# Altium integrated library Microchip Microcontroller 8-Bit PIC16 2.IntLib: 1656 symbols (part 9 of 56)
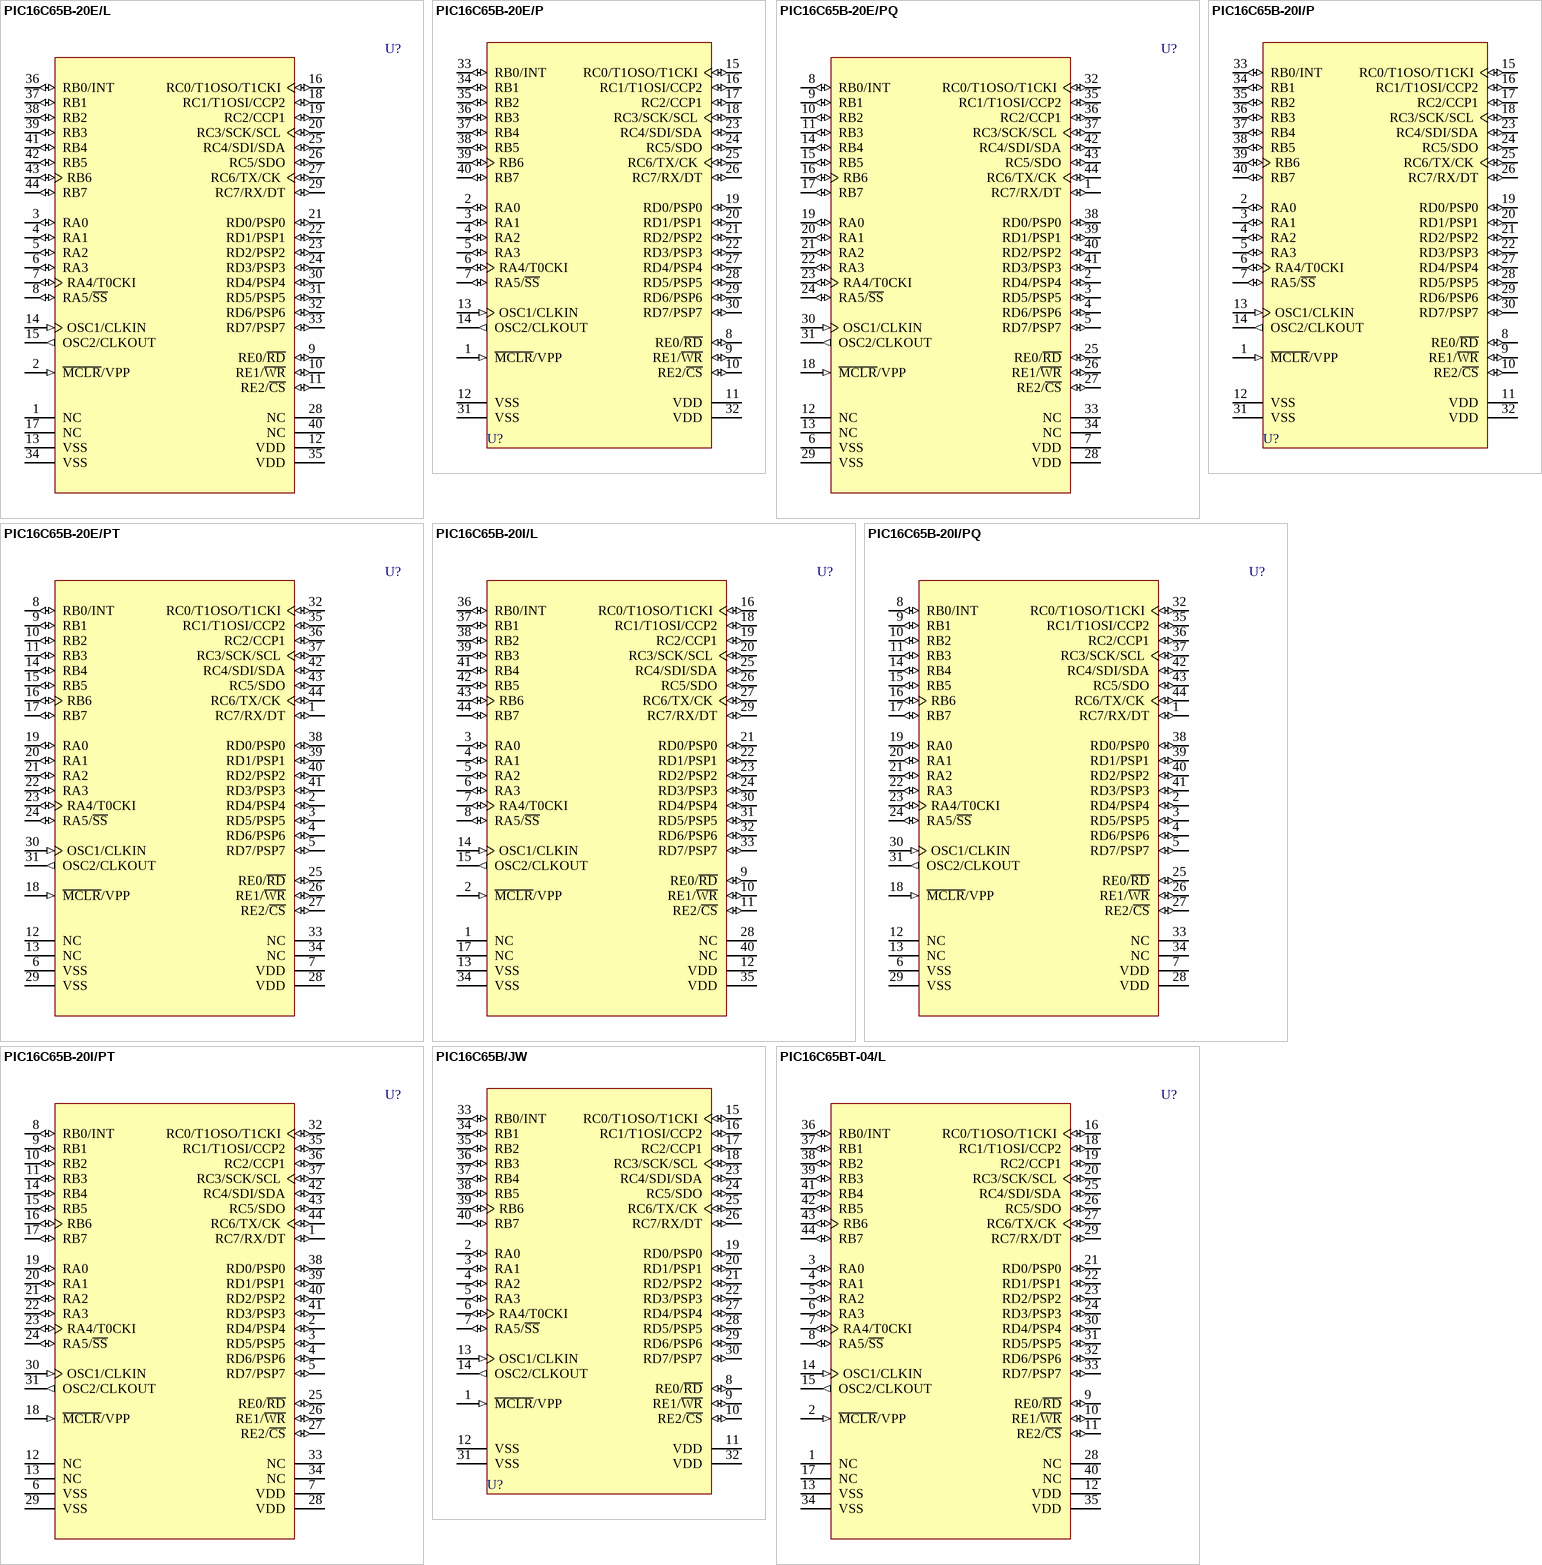
[diagram p116: symbols PIC16C65B-20E/L to PIC16C65BT-04/L]

## PIC16C65B-20I/L
designator U?
8-Bit CMOS Microcontroller, 192 Bytes RAM, 33 I/O Pins, 20 MHz, 44-Pin PLCC, Standard VDD Range, Industrial Temperature; Note: Verify oscillator characteristics if changing from this device to another.; Note: 4.0 to 5.5V Supply Range in XT, RC and LP osc modes.; Note: 4.5 to 5.5V Supply Range in HS osc mode.; Note: 25mA source/sink per I/O.; Published: 11-Oct-2004; LatestRevisionDate: 13-Apr-2006; LatestRevisionNote: IPC-7351 Footprint Added.; DatasheetVersion: DS30605C_2000; PackageVersion: 2003; PackageReference: PLCC-44; Publisher: Altium Limited; PackageDescription: 44-Pin Leaded Chip Carrier 1.27 mm Pitch; Code_JEDEC: MO-047; Code_IPC: PLCC-44; ComponentLink1Description: Manufacturer Link; ComponentLink1URL: http://www.microchip.com; ComponentLink2Description: Datasheet; ComponentLink2URL: http://ww1.microchip.com/downloads/en/DeviceDoc/30605c.pdf; ComponentLink3Description: Packaging Specification; ComponentLink3URL: http://ww1.microchip.com/downloads/en/PackagingSpec/00049AD.pdf
footprint PLCC-44_N (Leaded Chip Carrier, 44-Leads, Body 16.6x16.6mm, Pitch 1.27mm, IPC Medium Density)
footprint PLCC-44_L (Leaded Chip Carrier, 44-Leads, Body 16.6x16.6mm, Pitch 1.27mm, IPC High Density)
footprint PLCC-44_M (Leaded Chip Carrier, 44-Leads, Body 16.6x16.6mm, Pitch 1.27mm, IPC Low Density)
3D model PIC16C65B-PLCC-44 (44-Pin Leaded Chip Carrier 1.27 mm Pitch)
pins: 1 NC, 2 ~{MCLR}/VPP (in), 3 RA0 (io), 4 RA1 (io), 5 RA2 (io), 6 RA3 (io), 7 RA4/T0CKI (io), 8 RA5/~{SS} (io), 9 RE0/~{RD} (io), 10 RE1/~{WR} (io), 11 RE2/~{CS} (io), 12 VDD (power), 13 VSS (power), 14 OSC1/CLKIN (in), 15 OSC2/CLKOUT (out), 16 RC0/T1OSO/T1CKI (io), 17 NC, 18 RC1/T1OSI/CCP2 (io), 19 RC2/CCP1 (io), 20 RC3/SCK/SCL (io), 21 RD0/PSP0 (io), 22 RD1/PSP1 (io), 23 RD2/PSP2 (io), 24 RD3/PSP3 (io), 25 RC4/SDI/SDA (io), 26 RC5/SDO (io), 27 RC6/TX/CK (io), 28 NC, 29 RC7/RX/DT (io), 30 RD4/PSP4 (io), 31 RD5/PSP5 (io), 32 RD6/PSP6 (io), 33 RD7/PSP7 (io), 34 VSS (power), 35 VDD (power), 36 RB0/INT (io), 37 RB1 (io), 38 RB2 (io), 39 RB3 (io), 40 NC, 41 RB4 (io), 42 RB5 (io), 43 RB6 (io), 44 RB7 (io)

## PIC16C65B-20I/P
designator U?
8-Bit CMOS Microcontroller, 192 Bytes RAM, 33 I/O Pins, 20 MHz, 40-Pin PDIP, Standard VDD Range, Industrial Temperature; Note: Verify oscillator characteristics if changing from this device to another.; Note: 4.0 to 5.5V Supply Range in XT, RC and LP osc modes.; Note: 4.5 to 5.5V Supply Range in HS osc mode.; Note: 25mA source/sink per I/O.; Published: 11-Oct-2004; LatestRevisionDate: 04-Mar-2005; LatestRevisionNote: Stylized 3D Model Added.; DatasheetVersion: DS30605C_2000; PackageVersion: 2003; PackageReference: PDIP600-40; Publisher: Altium Limited; PackageDescription: DIP, Plastic; 40 Leads; Row Spacing 15.24 mm; Pitch 2.54 mm; Code_JEDEC: MO-011; ComponentLink1Description: Manufacturer Link; ComponentLink1URL: http://www.microchip.com; ComponentLink2Description: Datasheet; ComponentLink2URL: http://ww1.microchip.com/downloads/en/DeviceDoc/30605c.pdf; ComponentLink3Description: Packaging Specification; ComponentLink3URL: http://ww1.microchip.com/downloads/en/PackagingSpec/00049AD.pdf
footprint PDIP600-40 (DIP, Plastic; 40 Leads; Row Spacing 15.24 mm; Pitch 2.54 mm)
3D model PDIP600-40 (DIP, Plastic; 40 Leads; Row Spacing 15.24 mm; Pitch 2.54 mm)
pins: 1 ~{MCLR}/VPP (in), 2 RA0 (io), 3 RA1 (io), 4 RA2 (io), 5 RA3 (io), 6 RA4/T0CKI (io), 7 RA5/~{SS} (io), 8 RE0/~{RD} (io), 9 RE1/~{WR} (io), 10 RE2/~{CS} (io), 11 VDD (power), 12 VSS (power), 13 OSC1/CLKIN (in), 14 OSC2/CLKOUT (out), 15 RC0/T1OSO/T1CKI (io), 16 RC1/T1OSI/CCP2 (io), 17 RC2/CCP1 (io), 18 RC3/SCK/SCL (io), 19 RD0/PSP0 (io), 20 RD1/PSP1 (io), 21 RD2/PSP2 (io), 22 RD3/PSP3 (io), 23 RC4/SDI/SDA (io), 24 RC5/SDO (io), 25 RC6/TX/CK (io), 26 RC7/RX/DT (io), 27 RD4/PSP4 (io), 28 RD5/PSP5 (io), 29 RD6/PSP6 (io), 30 RD7/PSP7 (io), 31 VSS (power), 32 VDD (power), 33 RB0/INT (io), 34 RB1 (io), 35 RB2 (io), 36 RB3 (io), 37 RB4 (io), 38 RB5 (io), 39 RB6 (io), 40 RB7 (io)

## PIC16C65B-20I/PQ
designator U?
8-Bit CMOS Microcontroller, 192 Bytes RAM, 33 I/O Pins, 20 MHz, 44-Pin MQFP, Standard VDD Range, Industrial Temperature; Note: Verify oscillator characteristics if changing from this device to another.; Note: 4.0 to 5.5V Supply Range in XT, RC and LP osc modes.; Note: 4.5 to 5.5V Supply Range in HS osc mode.; Note: 25mA source/sink per I/O.; Published: 11-Oct-2004; LatestRevisionDate: 13-Apr-2006; LatestRevisionNote: IPC-7351 Footprint Added.; DatasheetVersion: DS30605C_2000; PackageVersion: 2003; PackageReference: MQFP-44; Publisher: Altium Limited; PackageDescription: 44-Pin Plastic Metric Quad Flat Pack 0.8 mm Pitch, 1.6/0.15 mm Lead Form; Code_JEDEC: MS-022; Code_IPC: QFP80P1320X1320-44; ComponentLink1Description: Manufacturer Link; ComponentLink1URL: http://www.microchip.com; ComponentLink2Description: Datasheet; ComponentLink2URL: http://ww1.microchip.com/downloads/en/DeviceDoc/30605c.pdf; ComponentLink3Description: Packaging Specification; ComponentLink3URL: http://ww1.microchip.com/downloads/en/PackagingSpec/00049AD.pdf
footprint MQFP-44_N (QFP, 44-Leads, Body 10x10mm, Pitch 0.8mm, IPC Medium Density)
footprint MQFP-44_L (QFP, 44-Leads, Body 10x10mm, Pitch 0.8mm, IPC High Density)
footprint MQFP-44_M (QFP, 44-Leads, Body 10x10mm, Pitch 0.8mm, IPC Low Density)
3D model PIC16C65B-MQFP-44 (44-Pin Plastic Metric Quad Flat Pack 0.8 mm Pitch, 1.6/0.15 mm Lead Form)
pins: 1 RC7/RX/DT (io), 2 RD4/PSP4 (io), 3 RD5/PSP5 (io), 4 RD6/PSP6 (io), 5 RD7/PSP7 (io), 6 VSS (power), 7 VDD (power), 8 RB0/INT (io), 9 RB1 (io), 10 RB2 (io), 11 RB3 (io), 12 NC, 13 NC, 14 RB4 (io), 15 RB5 (io), 16 RB6 (io), 17 RB7 (io), 18 ~{MCLR}/VPP (in), 19 RA0 (io), 20 RA1 (io), 21 RA2 (io), 22 RA3 (io), 23 RA4/T0CKI (io), 24 RA5/~{SS} (io), 25 RE0/~{RD} (io), 26 RE1/~{WR} (io), 27 RE2/~{CS} (io), 28 VDD (power), 29 VSS (power), 30 OSC1/CLKIN (in), 31 OSC2/CLKOUT (out), 32 RC0/T1OSO/T1CKI (io), 33 NC, 34 NC, 35 RC1/T1OSI/CCP2 (io), 36 RC2/CCP1 (io), 37 RC3/SCK/SCL (io), 38 RD0/PSP0 (io), 39 RD1/PSP1 (io), 40 RD2/PSP2 (io), 41 RD3/PSP3 (io), 42 RC4/SDI/SDA (io), 43 RC5/SDO (io), 44 RC6/TX/CK (io)

## PIC16C65B-20I/PT
designator U?
8-Bit CMOS Microcontroller, 192 Bytes RAM, 33 I/O Pins, 20 MHz, 44-Pin TQFP, Standard VDD Range, Industrial Temperature; Note: Verify oscillator characteristics if changing from this device to another.; Note: 4.0 to 5.5V Supply Range in XT, RC and LP osc modes.; Note: 4.5 to 5.5V Supply Range in HS osc mode.; Note: 25mA source/sink per I/O.; Published: 11-Oct-2004; LatestRevisionDate: 13-Apr-2006; LatestRevisionNote: IPC-7351 Footprint Added.; DatasheetVersion: DS30605C_2000; PackageVersion: 2003; PackageReference: TQFP-44; Publisher: Altium Limited; PackageDescription: 44-Pin Thin Quad Flat Pack 0.8 mm Pitch, 1.0/0.1 mm Lead Form; Code_JEDEC: MS-026; ComponentLink1Description: Manufacturer Link; ComponentLink1URL: http://www.microchip.com; ComponentLink2Description: Datasheet; ComponentLink2URL: http://ww1.microchip.com/downloads/en/DeviceDoc/30605c.pdf; ComponentLink3Description: Packaging Specification; ComponentLink3URL: http://ww1.microchip.com/downloads/en/PackagingSpec/00049AD.pdf
footprint TQFP-44_N (Thin QFP, 44-Leads, Body 10x10mm, Pitch 0.8mm, IPC Medium Density)
footprint TQFP-44_L (Thin QFP, 44-Leads, Body 10x10mm, Pitch 0.8mm, IPC High Density)
footprint TQFP-44_M (Thin QFP, 44-Leads, Body 10x10mm, Pitch 0.8mm, IPC Low Density)
3D model PIC16C65B-TQFP-44 (44-Pin Thin Quad Flat Pack 0.8 mm Pitch, 1.0/0.1 mm Lead Form)
pins: 1 RC7/RX/DT (io), 2 RD4/PSP4 (io), 3 RD5/PSP5 (io), 4 RD6/PSP6 (io), 5 RD7/PSP7 (io), 6 VSS (power), 7 VDD (power), 8 RB0/INT (io), 9 RB1 (io), 10 RB2 (io), 11 RB3 (io), 12 NC, 13 NC, 14 RB4 (io), 15 RB5 (io), 16 RB6 (io), 17 RB7 (io), 18 ~{MCLR}/VPP (in), 19 RA0 (io), 20 RA1 (io), 21 RA2 (io), 22 RA3 (io), 23 RA4/T0CKI (io), 24 RA5/~{SS} (io), 25 RE0/~{RD} (io), 26 RE1/~{WR} (io), 27 RE2/~{CS} (io), 28 VDD (power), 29 VSS (power), 30 OSC1/CLKIN (in), 31 OSC2/CLKOUT (out), 32 RC0/T1OSO/T1CKI (io), 33 NC, 34 NC, 35 RC1/T1OSI/CCP2 (io), 36 RC2/CCP1 (io), 37 RC3/SCK/SCL (io), 38 RD0/PSP0 (io), 39 RD1/PSP1 (io), 40 RD2/PSP2 (io), 41 RD3/PSP3 (io), 42 RC4/SDI/SDA (io), 43 RC5/SDO (io), 44 RC6/TX/CK (io)

## PIC16C65B/JW
designator U?
8-Bit CMOS Microcontroller, 192 Bytes RAM, 33 I/O Pins, 40-Pin CERDIP, UV Erasable, Standard VDD Range, Commercial Temperature; Note: JW Devices can be programmed to any device configuration.; Note: JW Devices meet the electrical requirement of each oscillator type (including LC devices).; Note: 25mA source/sink per I/O.; Published: 11-Oct-2004; LatestRevisionDate: 04-Mar-2005; LatestRevisionNote: Stylized 3D Model Added.; DatasheetVersion: DS30605C_2000; PackageVersion: 2003; PackageReference: CERDIP600W-40; Publisher: Altium Limited; PackageDescription: CerDIP, Window; 40 Leads; Row Spacing 15.24 mm; Pitch 2.54 mm; Code_JEDEC: MO-103; ComponentLink1Description: Manufacturer Link; ComponentLink1URL: http://www.microchip.com; ComponentLink2Description: Datasheet; ComponentLink2URL: http://ww1.microchip.com/downloads/en/DeviceDoc/30605c.pdf; ComponentLink3Description: Packaging Specification; ComponentLink3URL: http://ww1.microchip.com/downloads/en/PackagingSpec/00049AD.pdf
footprint CERDIP600W-40 (CerDIP, Window; 40 Leads; Row Spacing 15.24 mm; Pitch 2.54 mm)
3D model CERDIP600W-40 (CerDIP, Window; 40 Leads; Row Spacing 15.24 mm; Pitch 2.54 mm)
pins: 1 ~{MCLR}/VPP (in), 2 RA0 (io), 3 RA1 (io), 4 RA2 (io), 5 RA3 (io), 6 RA4/T0CKI (io), 7 RA5/~{SS} (io), 8 RE0/~{RD} (io), 9 RE1/~{WR} (io), 10 RE2/~{CS} (io), 11 VDD (power), 12 VSS (power), 13 OSC1/CLKIN (in), 14 OSC2/CLKOUT (out), 15 RC0/T1OSO/T1CKI (io), 16 RC1/T1OSI/CCP2 (io), 17 RC2/CCP1 (io), 18 RC3/SCK/SCL (io), 19 RD0/PSP0 (io), 20 RD1/PSP1 (io), 21 RD2/PSP2 (io), 22 RD3/PSP3 (io), 23 RC4/SDI/SDA (io), 24 RC5/SDO (io), 25 RC6/TX/CK (io), 26 RC7/RX/DT (io), 27 RD4/PSP4 (io), 28 RD5/PSP5 (io), 29 RD6/PSP6 (io), 30 RD7/PSP7 (io), 31 VSS (power), 32 VDD (power), 33 RB0/INT (io), 34 RB1 (io), 35 RB2 (io), 36 RB3 (io), 37 RB4 (io), 38 RB5 (io), 39 RB6 (io), 40 RB7 (io)

## PIC16C65BT-04/L
designator U?
8-Bit CMOS Microcontroller, 192 Bytes RAM, 33 I/O Pins, 4 MHz, 44-Pin PLCC, Standard VDD Range, Commercial Temperature, Tape and Reel; Note: Verify oscillator characteristics if changing from this device to another.; Note: 4.0 to 5.5V Supply Range in XT, RC and LP osc modes.; Note: 4.5 to 5.5V Supply Range in HS osc mode.; Note: 25mA source/sink per I/O.; Published: 11-Oct-2004; LatestRevisionDate: 13-Apr-2006; LatestRevisionNote: IPC-7351 Footprint Added.; DatasheetVersion: DS30605C_2000; PackageVersion: 2003; PackageReference: PLCC-44; Publisher: Altium Limited; PackageDescription: 44-Pin Leaded Chip Carrier 1.27 mm Pitch; Code_JEDEC: MO-047; Code_IPC: PLCC-44; ComponentLink1Description: Manufacturer Link; ComponentLink1URL: http://www.microchip.com; ComponentLink2Description: Datasheet; ComponentLink2URL: http://ww1.microchip.com/downloads/en/DeviceDoc/30605c.pdf; ComponentLink3Description: Packaging Specification; ComponentLink3URL: http://ww1.microchip.com/downloads/en/PackagingSpec/00049AD.pdf
footprint PLCC-44_N (Leaded Chip Carrier, 44-Leads, Body 16.6x16.6mm, Pitch 1.27mm, IPC Medium Density)
footprint PLCC-44_L (Leaded Chip Carrier, 44-Leads, Body 16.6x16.6mm, Pitch 1.27mm, IPC High Density)
footprint PLCC-44_M (Leaded Chip Carrier, 44-Leads, Body 16.6x16.6mm, Pitch 1.27mm, IPC Low Density)
3D model PIC16C65B-PLCC-44 (44-Pin Leaded Chip Carrier 1.27 mm Pitch)
pins: 1 NC, 2 ~{MCLR}/VPP (in), 3 RA0 (io), 4 RA1 (io), 5 RA2 (io), 6 RA3 (io), 7 RA4/T0CKI (io), 8 RA5/~{SS} (io), 9 RE0/~{RD} (io), 10 RE1/~{WR} (io), 11 RE2/~{CS} (io), 12 VDD (power), 13 VSS (power), 14 OSC1/CLKIN (in), 15 OSC2/CLKOUT (out), 16 RC0/T1OSO/T1CKI (io), 17 NC, 18 RC1/T1OSI/CCP2 (io), 19 RC2/CCP1 (io), 20 RC3/SCK/SCL (io), 21 RD0/PSP0 (io), 22 RD1/PSP1 (io), 23 RD2/PSP2 (io), 24 RD3/PSP3 (io), 25 RC4/SDI/SDA (io), 26 RC5/SDO (io), 27 RC6/TX/CK (io), 28 NC, 29 RC7/RX/DT (io), 30 RD4/PSP4 (io), 31 RD5/PSP5 (io), 32 RD6/PSP6 (io), 33 RD7/PSP7 (io), 34 VSS (power), 35 VDD (power), 36 RB0/INT (io), 37 RB1 (io), 38 RB2 (io), 39 RB3 (io), 40 NC, 41 RB4 (io), 42 RB5 (io), 43 RB6 (io), 44 RB7 (io)

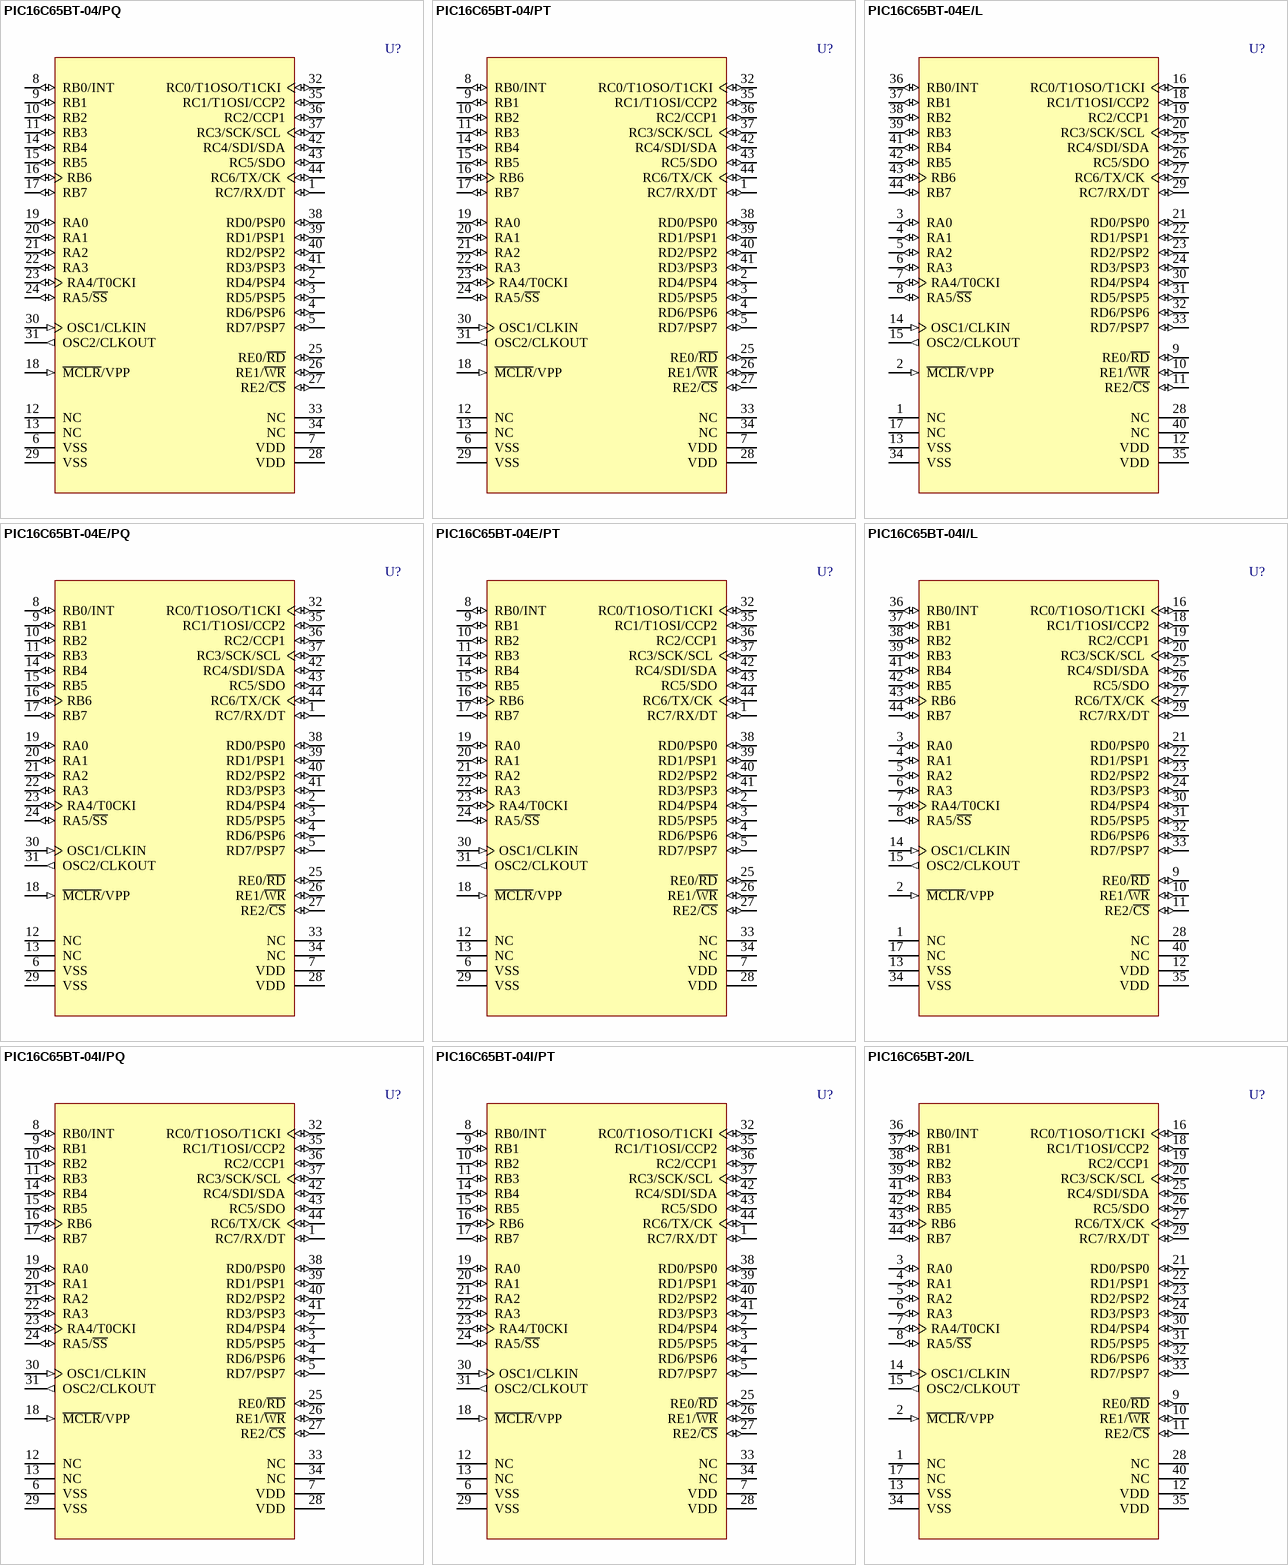
[diagram p18: symbols PIC16C65BT-04/PQ to PIC16C65BT-20/L]

## PIC16C65BT-04/PQ
designator U?
8-Bit CMOS Microcontroller, 192 Bytes RAM, 33 I/O Pins, 4 MHz, 44-Pin MQFP, Standard VDD Range, Commercial Temperature, Tape and Reel; Note: Verify oscillator characteristics if changing from this device to another.; Note: 4.0 to 5.5V Supply Range in XT, RC and LP osc modes.; Note: 4.5 to 5.5V Supply Range in HS osc mode.; Note: 25mA source/sink per I/O.; Published: 11-Oct-2004; LatestRevisionDate: 13-Apr-2006; LatestRevisionNote: IPC-7351 Footprint Added.; DatasheetVersion: DS30605C_2000; PackageVersion: 2003; PackageReference: MQFP-44; Publisher: Altium Limited; PackageDescription: 44-Pin Plastic Metric Quad Flat Pack 0.8 mm Pitch, 1.6/0.15 mm Lead Form; Code_JEDEC: MS-022; Code_IPC: QFP80P1320X1320-44; ComponentLink1Description: Manufacturer Link; ComponentLink1URL: http://www.microchip.com; ComponentLink2Description: Datasheet; ComponentLink2URL: http://ww1.microchip.com/downloads/en/DeviceDoc/30605c.pdf; ComponentLink3Description: Packaging Specification; ComponentLink3URL: http://ww1.microchip.com/downloads/en/PackagingSpec/00049AD.pdf
footprint MQFP-44_N (QFP, 44-Leads, Body 10x10mm, Pitch 0.8mm, IPC Medium Density)
footprint MQFP-44_L (QFP, 44-Leads, Body 10x10mm, Pitch 0.8mm, IPC High Density)
footprint MQFP-44_M (QFP, 44-Leads, Body 10x10mm, Pitch 0.8mm, IPC Low Density)
3D model PIC16C65B-MQFP-44 (44-Pin Plastic Metric Quad Flat Pack 0.8 mm Pitch, 1.6/0.15 mm Lead Form)
pins: 1 RC7/RX/DT (io), 2 RD4/PSP4 (io), 3 RD5/PSP5 (io), 4 RD6/PSP6 (io), 5 RD7/PSP7 (io), 6 VSS (power), 7 VDD (power), 8 RB0/INT (io), 9 RB1 (io), 10 RB2 (io), 11 RB3 (io), 12 NC, 13 NC, 14 RB4 (io), 15 RB5 (io), 16 RB6 (io), 17 RB7 (io), 18 ~{MCLR}/VPP (in), 19 RA0 (io), 20 RA1 (io), 21 RA2 (io), 22 RA3 (io), 23 RA4/T0CKI (io), 24 RA5/~{SS} (io), 25 RE0/~{RD} (io), 26 RE1/~{WR} (io), 27 RE2/~{CS} (io), 28 VDD (power), 29 VSS (power), 30 OSC1/CLKIN (in), 31 OSC2/CLKOUT (out), 32 RC0/T1OSO/T1CKI (io), 33 NC, 34 NC, 35 RC1/T1OSI/CCP2 (io), 36 RC2/CCP1 (io), 37 RC3/SCK/SCL (io), 38 RD0/PSP0 (io), 39 RD1/PSP1 (io), 40 RD2/PSP2 (io), 41 RD3/PSP3 (io), 42 RC4/SDI/SDA (io), 43 RC5/SDO (io), 44 RC6/TX/CK (io)

## PIC16C65BT-04/PT
designator U?
8-Bit CMOS Microcontroller, 192 Bytes RAM, 33 I/O Pins, 4 MHz, 44-Pin TQFP, Standard VDD Range, Commercial Temperature, Tape and Reel; Note: Verify oscillator characteristics if changing from this device to another.; Note: 4.0 to 5.5V Supply Range in XT, RC and LP osc modes.; Note: 4.5 to 5.5V Supply Range in HS osc mode.; Note: 25mA source/sink per I/O.; Published: 11-Oct-2004; LatestRevisionDate: 13-Apr-2006; LatestRevisionNote: IPC-7351 Footprint Added.; DatasheetVersion: DS30605C_2000; PackageVersion: 2003; PackageReference: TQFP-44; Publisher: Altium Limited; PackageDescription: 44-Pin Thin Quad Flat Pack 0.8 mm Pitch, 1.0/0.1 mm Lead Form; Code_JEDEC: MS-026; ComponentLink1Description: Manufacturer Link; ComponentLink1URL: http://www.microchip.com; ComponentLink2Description: Datasheet; ComponentLink2URL: http://ww1.microchip.com/downloads/en/DeviceDoc/30605c.pdf; ComponentLink3Description: Packaging Specification; ComponentLink3URL: http://ww1.microchip.com/downloads/en/PackagingSpec/00049AD.pdf
footprint TQFP-44_N (Thin QFP, 44-Leads, Body 10x10mm, Pitch 0.8mm, IPC Medium Density)
footprint TQFP-44_L (Thin QFP, 44-Leads, Body 10x10mm, Pitch 0.8mm, IPC High Density)
footprint TQFP-44_M (Thin QFP, 44-Leads, Body 10x10mm, Pitch 0.8mm, IPC Low Density)
3D model PIC16C65B-TQFP-44 (44-Pin Thin Quad Flat Pack 0.8 mm Pitch, 1.0/0.1 mm Lead Form)
pins: 1 RC7/RX/DT (io), 2 RD4/PSP4 (io), 3 RD5/PSP5 (io), 4 RD6/PSP6 (io), 5 RD7/PSP7 (io), 6 VSS (power), 7 VDD (power), 8 RB0/INT (io), 9 RB1 (io), 10 RB2 (io), 11 RB3 (io), 12 NC, 13 NC, 14 RB4 (io), 15 RB5 (io), 16 RB6 (io), 17 RB7 (io), 18 ~{MCLR}/VPP (in), 19 RA0 (io), 20 RA1 (io), 21 RA2 (io), 22 RA3 (io), 23 RA4/T0CKI (io), 24 RA5/~{SS} (io), 25 RE0/~{RD} (io), 26 RE1/~{WR} (io), 27 RE2/~{CS} (io), 28 VDD (power), 29 VSS (power), 30 OSC1/CLKIN (in), 31 OSC2/CLKOUT (out), 32 RC0/T1OSO/T1CKI (io), 33 NC, 34 NC, 35 RC1/T1OSI/CCP2 (io), 36 RC2/CCP1 (io), 37 RC3/SCK/SCL (io), 38 RD0/PSP0 (io), 39 RD1/PSP1 (io), 40 RD2/PSP2 (io), 41 RD3/PSP3 (io), 42 RC4/SDI/SDA (io), 43 RC5/SDO (io), 44 RC6/TX/CK (io)

## PIC16C65BT-04E/L
designator U?
8-Bit CMOS Microcontroller, 192 Bytes RAM, 33 I/O Pins, 4 MHz, 44-Pin PLCC, Standard VDD Range, Extended Temperature, Tape and Reel; Note: Verify oscillator characteristics if changing from this device to another.; Note: 4.0 to 5.5V Supply Range in XT, RC and LP osc modes.; Note: 4.5 to 5.5V Supply Range in HS osc mode.; Note: 25mA source/sink per I/O.; Published: 11-Oct-2004; LatestRevisionDate: 13-Apr-2006; LatestRevisionNote: IPC-7351 Footprint Added.; DatasheetVersion: DS30605C_2000; PackageVersion: 2003; PackageReference: PLCC-44; Publisher: Altium Limited; PackageDescription: 44-Pin Leaded Chip Carrier 1.27 mm Pitch; Code_JEDEC: MO-047; Code_IPC: PLCC-44; ComponentLink1Description: Manufacturer Link; ComponentLink1URL: http://www.microchip.com; ComponentLink2Description: Datasheet; ComponentLink2URL: http://ww1.microchip.com/downloads/en/DeviceDoc/30605c.pdf; ComponentLink3Description: Packaging Specification; ComponentLink3URL: http://ww1.microchip.com/downloads/en/PackagingSpec/00049AD.pdf
footprint PLCC-44_N (Leaded Chip Carrier, 44-Leads, Body 16.6x16.6mm, Pitch 1.27mm, IPC Medium Density)
footprint PLCC-44_L (Leaded Chip Carrier, 44-Leads, Body 16.6x16.6mm, Pitch 1.27mm, IPC High Density)
footprint PLCC-44_M (Leaded Chip Carrier, 44-Leads, Body 16.6x16.6mm, Pitch 1.27mm, IPC Low Density)
3D model PIC16C65B-PLCC-44 (44-Pin Leaded Chip Carrier 1.27 mm Pitch)
pins: 1 NC, 2 ~{MCLR}/VPP (in), 3 RA0 (io), 4 RA1 (io), 5 RA2 (io), 6 RA3 (io), 7 RA4/T0CKI (io), 8 RA5/~{SS} (io), 9 RE0/~{RD} (io), 10 RE1/~{WR} (io), 11 RE2/~{CS} (io), 12 VDD (power), 13 VSS (power), 14 OSC1/CLKIN (in), 15 OSC2/CLKOUT (out), 16 RC0/T1OSO/T1CKI (io), 17 NC, 18 RC1/T1OSI/CCP2 (io), 19 RC2/CCP1 (io), 20 RC3/SCK/SCL (io), 21 RD0/PSP0 (io), 22 RD1/PSP1 (io), 23 RD2/PSP2 (io), 24 RD3/PSP3 (io), 25 RC4/SDI/SDA (io), 26 RC5/SDO (io), 27 RC6/TX/CK (io), 28 NC, 29 RC7/RX/DT (io), 30 RD4/PSP4 (io), 31 RD5/PSP5 (io), 32 RD6/PSP6 (io), 33 RD7/PSP7 (io), 34 VSS (power), 35 VDD (power), 36 RB0/INT (io), 37 RB1 (io), 38 RB2 (io), 39 RB3 (io), 40 NC, 41 RB4 (io), 42 RB5 (io), 43 RB6 (io), 44 RB7 (io)

## PIC16C65BT-04E/PQ
designator U?
8-Bit CMOS Microcontroller, 192 Bytes RAM, 33 I/O Pins, 4 MHz, 44-Pin MQFP, Standard VDD Range, Extended Temperature, Tape and Reel; Note: Verify oscillator characteristics if changing from this device to another.; Note: 4.0 to 5.5V Supply Range in XT, RC and LP osc modes.; Note: 4.5 to 5.5V Supply Range in HS osc mode.; Note: 25mA source/sink per I/O.; Published: 11-Oct-2004; LatestRevisionDate: 13-Apr-2006; LatestRevisionNote: IPC-7351 Footprint Added.; DatasheetVersion: DS30605C_2000; PackageVersion: 2003; PackageReference: MQFP-44; Publisher: Altium Limited; PackageDescription: 44-Pin Plastic Metric Quad Flat Pack 0.8 mm Pitch, 1.6/0.15 mm Lead Form; Code_JEDEC: MS-022; Code_IPC: QFP80P1320X1320-44; ComponentLink1Description: Manufacturer Link; ComponentLink1URL: http://www.microchip.com; ComponentLink2Description: Datasheet; ComponentLink2URL: http://ww1.microchip.com/downloads/en/DeviceDoc/30605c.pdf; ComponentLink3Description: Packaging Specification; ComponentLink3URL: http://ww1.microchip.com/downloads/en/PackagingSpec/00049AD.pdf
footprint MQFP-44_N (QFP, 44-Leads, Body 10x10mm, Pitch 0.8mm, IPC Medium Density)
footprint MQFP-44_L (QFP, 44-Leads, Body 10x10mm, Pitch 0.8mm, IPC High Density)
footprint MQFP-44_M (QFP, 44-Leads, Body 10x10mm, Pitch 0.8mm, IPC Low Density)
3D model PIC16C65B-MQFP-44 (44-Pin Plastic Metric Quad Flat Pack 0.8 mm Pitch, 1.6/0.15 mm Lead Form)
pins: 1 RC7/RX/DT (io), 2 RD4/PSP4 (io), 3 RD5/PSP5 (io), 4 RD6/PSP6 (io), 5 RD7/PSP7 (io), 6 VSS (power), 7 VDD (power), 8 RB0/INT (io), 9 RB1 (io), 10 RB2 (io), 11 RB3 (io), 12 NC, 13 NC, 14 RB4 (io), 15 RB5 (io), 16 RB6 (io), 17 RB7 (io), 18 ~{MCLR}/VPP (in), 19 RA0 (io), 20 RA1 (io), 21 RA2 (io), 22 RA3 (io), 23 RA4/T0CKI (io), 24 RA5/~{SS} (io), 25 RE0/~{RD} (io), 26 RE1/~{WR} (io), 27 RE2/~{CS} (io), 28 VDD (power), 29 VSS (power), 30 OSC1/CLKIN (in), 31 OSC2/CLKOUT (out), 32 RC0/T1OSO/T1CKI (io), 33 NC, 34 NC, 35 RC1/T1OSI/CCP2 (io), 36 RC2/CCP1 (io), 37 RC3/SCK/SCL (io), 38 RD0/PSP0 (io), 39 RD1/PSP1 (io), 40 RD2/PSP2 (io), 41 RD3/PSP3 (io), 42 RC4/SDI/SDA (io), 43 RC5/SDO (io), 44 RC6/TX/CK (io)

## PIC16C65BT-04E/PT
designator U?
8-Bit CMOS Microcontroller, 192 Bytes RAM, 33 I/O Pins, 4 MHz, 44-Pin TQFP, Standard VDD Range, Extended Temperature, Tape and Reel; Note: Verify oscillator characteristics if changing from this device to another.; Note: 4.0 to 5.5V Supply Range in XT, RC and LP osc modes.; Note: 4.5 to 5.5V Supply Range in HS osc mode.; Note: 25mA source/sink per I/O.; Published: 11-Oct-2004; LatestRevisionDate: 13-Apr-2006; LatestRevisionNote: IPC-7351 Footprint Added.; DatasheetVersion: DS30605C_2000; PackageVersion: 2003; PackageReference: TQFP-44; Publisher: Altium Limited; PackageDescription: 44-Pin Thin Quad Flat Pack 0.8 mm Pitch, 1.0/0.1 mm Lead Form; Code_JEDEC: MS-026; ComponentLink1Description: Manufacturer Link; ComponentLink1URL: http://www.microchip.com; ComponentLink2Description: Datasheet; ComponentLink2URL: http://ww1.microchip.com/downloads/en/DeviceDoc/30605c.pdf; ComponentLink3Description: Packaging Specification; ComponentLink3URL: http://ww1.microchip.com/downloads/en/PackagingSpec/00049AD.pdf
footprint TQFP-44_N (Thin QFP, 44-Leads, Body 10x10mm, Pitch 0.8mm, IPC Medium Density)
footprint TQFP-44_L (Thin QFP, 44-Leads, Body 10x10mm, Pitch 0.8mm, IPC High Density)
footprint TQFP-44_M (Thin QFP, 44-Leads, Body 10x10mm, Pitch 0.8mm, IPC Low Density)
3D model PIC16C65B-TQFP-44 (44-Pin Thin Quad Flat Pack 0.8 mm Pitch, 1.0/0.1 mm Lead Form)
pins: 1 RC7/RX/DT (io), 2 RD4/PSP4 (io), 3 RD5/PSP5 (io), 4 RD6/PSP6 (io), 5 RD7/PSP7 (io), 6 VSS (power), 7 VDD (power), 8 RB0/INT (io), 9 RB1 (io), 10 RB2 (io), 11 RB3 (io), 12 NC, 13 NC, 14 RB4 (io), 15 RB5 (io), 16 RB6 (io), 17 RB7 (io), 18 ~{MCLR}/VPP (in), 19 RA0 (io), 20 RA1 (io), 21 RA2 (io), 22 RA3 (io), 23 RA4/T0CKI (io), 24 RA5/~{SS} (io), 25 RE0/~{RD} (io), 26 RE1/~{WR} (io), 27 RE2/~{CS} (io), 28 VDD (power), 29 VSS (power), 30 OSC1/CLKIN (in), 31 OSC2/CLKOUT (out), 32 RC0/T1OSO/T1CKI (io), 33 NC, 34 NC, 35 RC1/T1OSI/CCP2 (io), 36 RC2/CCP1 (io), 37 RC3/SCK/SCL (io), 38 RD0/PSP0 (io), 39 RD1/PSP1 (io), 40 RD2/PSP2 (io), 41 RD3/PSP3 (io), 42 RC4/SDI/SDA (io), 43 RC5/SDO (io), 44 RC6/TX/CK (io)

## PIC16C65BT-04I/L
designator U?
8-Bit CMOS Microcontroller, 192 Bytes RAM, 33 I/O Pins, 4 MHz, 44-Pin PLCC, Standard VDD Range, Industrial Temperature, Tape and Reel; Note: Verify oscillator characteristics if changing from this device to another.; Note: 4.0 to 5.5V Supply Range in XT, RC and LP osc modes.; Note: 4.5 to 5.5V Supply Range in HS osc mode.; Note: 25mA source/sink per I/O.; Published: 11-Oct-2004; LatestRevisionDate: 13-Apr-2006; LatestRevisionNote: IPC-7351 Footprint Added.; DatasheetVersion: DS30605C_2000; PackageVersion: 2003; PackageReference: PLCC-44; Publisher: Altium Limited; PackageDescription: 44-Pin Leaded Chip Carrier 1.27 mm Pitch; Code_JEDEC: MO-047; Code_IPC: PLCC-44; ComponentLink1Description: Manufacturer Link; ComponentLink1URL: http://www.microchip.com; ComponentLink2Description: Datasheet; ComponentLink2URL: http://ww1.microchip.com/downloads/en/DeviceDoc/30605c.pdf; ComponentLink3Description: Packaging Specification; ComponentLink3URL: http://ww1.microchip.com/downloads/en/PackagingSpec/00049AD.pdf
footprint PLCC-44_N (Leaded Chip Carrier, 44-Leads, Body 16.6x16.6mm, Pitch 1.27mm, IPC Medium Density)
footprint PLCC-44_L (Leaded Chip Carrier, 44-Leads, Body 16.6x16.6mm, Pitch 1.27mm, IPC High Density)
footprint PLCC-44_M (Leaded Chip Carrier, 44-Leads, Body 16.6x16.6mm, Pitch 1.27mm, IPC Low Density)
3D model PIC16C65B-PLCC-44 (44-Pin Leaded Chip Carrier 1.27 mm Pitch)
pins: 1 NC, 2 ~{MCLR}/VPP (in), 3 RA0 (io), 4 RA1 (io), 5 RA2 (io), 6 RA3 (io), 7 RA4/T0CKI (io), 8 RA5/~{SS} (io), 9 RE0/~{RD} (io), 10 RE1/~{WR} (io), 11 RE2/~{CS} (io), 12 VDD (power), 13 VSS (power), 14 OSC1/CLKIN (in), 15 OSC2/CLKOUT (out), 16 RC0/T1OSO/T1CKI (io), 17 NC, 18 RC1/T1OSI/CCP2 (io), 19 RC2/CCP1 (io), 20 RC3/SCK/SCL (io), 21 RD0/PSP0 (io), 22 RD1/PSP1 (io), 23 RD2/PSP2 (io), 24 RD3/PSP3 (io), 25 RC4/SDI/SDA (io), 26 RC5/SDO (io), 27 RC6/TX/CK (io), 28 NC, 29 RC7/RX/DT (io), 30 RD4/PSP4 (io), 31 RD5/PSP5 (io), 32 RD6/PSP6 (io), 33 RD7/PSP7 (io), 34 VSS (power), 35 VDD (power), 36 RB0/INT (io), 37 RB1 (io), 38 RB2 (io), 39 RB3 (io), 40 NC, 41 RB4 (io), 42 RB5 (io), 43 RB6 (io), 44 RB7 (io)

## PIC16C65BT-04I/PQ
designator U?
8-Bit CMOS Microcontroller, 192 Bytes RAM, 33 I/O Pins, 4 MHz, 44-Pin MQFP, Standard VDD Range, Industrial Temperature, Tape and Reel; Note: Verify oscillator characteristics if changing from this device to another.; Note: 4.0 to 5.5V Supply Range in XT, RC and LP osc modes.; Note: 4.5 to 5.5V Supply Range in HS osc mode.; Note: 25mA source/sink per I/O.; Published: 11-Oct-2004; LatestRevisionDate: 13-Apr-2006; LatestRevisionNote: IPC-7351 Footprint Added.; DatasheetVersion: DS30605C_2000; PackageVersion: 2003; PackageReference: MQFP-44; Publisher: Altium Limited; PackageDescription: 44-Pin Plastic Metric Quad Flat Pack 0.8 mm Pitch, 1.6/0.15 mm Lead Form; Code_JEDEC: MS-022; Code_IPC: QFP80P1320X1320-44; ComponentLink1Description: Manufacturer Link; ComponentLink1URL: http://www.microchip.com; ComponentLink2Description: Datasheet; ComponentLink2URL: http://ww1.microchip.com/downloads/en/DeviceDoc/30605c.pdf; ComponentLink3Description: Packaging Specification; ComponentLink3URL: http://ww1.microchip.com/downloads/en/PackagingSpec/00049AD.pdf
footprint MQFP-44_N (QFP, 44-Leads, Body 10x10mm, Pitch 0.8mm, IPC Medium Density)
footprint MQFP-44_L (QFP, 44-Leads, Body 10x10mm, Pitch 0.8mm, IPC High Density)
footprint MQFP-44_M (QFP, 44-Leads, Body 10x10mm, Pitch 0.8mm, IPC Low Density)
3D model PIC16C65B-MQFP-44 (44-Pin Plastic Metric Quad Flat Pack 0.8 mm Pitch, 1.6/0.15 mm Lead Form)
pins: 1 RC7/RX/DT (io), 2 RD4/PSP4 (io), 3 RD5/PSP5 (io), 4 RD6/PSP6 (io), 5 RD7/PSP7 (io), 6 VSS (power), 7 VDD (power), 8 RB0/INT (io), 9 RB1 (io), 10 RB2 (io), 11 RB3 (io), 12 NC, 13 NC, 14 RB4 (io), 15 RB5 (io), 16 RB6 (io), 17 RB7 (io), 18 ~{MCLR}/VPP (in), 19 RA0 (io), 20 RA1 (io), 21 RA2 (io), 22 RA3 (io), 23 RA4/T0CKI (io), 24 RA5/~{SS} (io), 25 RE0/~{RD} (io), 26 RE1/~{WR} (io), 27 RE2/~{CS} (io), 28 VDD (power), 29 VSS (power), 30 OSC1/CLKIN (in), 31 OSC2/CLKOUT (out), 32 RC0/T1OSO/T1CKI (io), 33 NC, 34 NC, 35 RC1/T1OSI/CCP2 (io), 36 RC2/CCP1 (io), 37 RC3/SCK/SCL (io), 38 RD0/PSP0 (io), 39 RD1/PSP1 (io), 40 RD2/PSP2 (io), 41 RD3/PSP3 (io), 42 RC4/SDI/SDA (io), 43 RC5/SDO (io), 44 RC6/TX/CK (io)

## PIC16C65BT-04I/PT
designator U?
8-Bit CMOS Microcontroller, 192 Bytes RAM, 33 I/O Pins, 4 MHz, 44-Pin TQFP, Standard VDD Range, Industrial Temperature, Tape and Reel; Note: Verify oscillator characteristics if changing from this device to another.; Note: 4.0 to 5.5V Supply Range in XT, RC and LP osc modes.; Note: 4.5 to 5.5V Supply Range in HS osc mode.; Note: 25mA source/sink per I/O.; Published: 11-Oct-2004; LatestRevisionDate: 13-Apr-2006; LatestRevisionNote: IPC-7351 Footprint Added.; DatasheetVersion: DS30605C_2000; PackageVersion: 2003; PackageReference: TQFP-44; Publisher: Altium Limited; PackageDescription: 44-Pin Thin Quad Flat Pack 0.8 mm Pitch, 1.0/0.1 mm Lead Form; Code_JEDEC: MS-026; ComponentLink1Description: Manufacturer Link; ComponentLink1URL: http://www.microchip.com; ComponentLink2Description: Datasheet; ComponentLink2URL: http://ww1.microchip.com/downloads/en/DeviceDoc/30605c.pdf; ComponentLink3Description: Packaging Specification; ComponentLink3URL: http://ww1.microchip.com/downloads/en/PackagingSpec/00049AD.pdf
footprint TQFP-44_N (Thin QFP, 44-Leads, Body 10x10mm, Pitch 0.8mm, IPC Medium Density)
footprint TQFP-44_L (Thin QFP, 44-Leads, Body 10x10mm, Pitch 0.8mm, IPC High Density)
footprint TQFP-44_M (Thin QFP, 44-Leads, Body 10x10mm, Pitch 0.8mm, IPC Low Density)
3D model PIC16C65B-TQFP-44 (44-Pin Thin Quad Flat Pack 0.8 mm Pitch, 1.0/0.1 mm Lead Form)
pins: 1 RC7/RX/DT (io), 2 RD4/PSP4 (io), 3 RD5/PSP5 (io), 4 RD6/PSP6 (io), 5 RD7/PSP7 (io), 6 VSS (power), 7 VDD (power), 8 RB0/INT (io), 9 RB1 (io), 10 RB2 (io), 11 RB3 (io), 12 NC, 13 NC, 14 RB4 (io), 15 RB5 (io), 16 RB6 (io), 17 RB7 (io), 18 ~{MCLR}/VPP (in), 19 RA0 (io), 20 RA1 (io), 21 RA2 (io), 22 RA3 (io), 23 RA4/T0CKI (io), 24 RA5/~{SS} (io), 25 RE0/~{RD} (io), 26 RE1/~{WR} (io), 27 RE2/~{CS} (io), 28 VDD (power), 29 VSS (power), 30 OSC1/CLKIN (in), 31 OSC2/CLKOUT (out), 32 RC0/T1OSO/T1CKI (io), 33 NC, 34 NC, 35 RC1/T1OSI/CCP2 (io), 36 RC2/CCP1 (io), 37 RC3/SCK/SCL (io), 38 RD0/PSP0 (io), 39 RD1/PSP1 (io), 40 RD2/PSP2 (io), 41 RD3/PSP3 (io), 42 RC4/SDI/SDA (io), 43 RC5/SDO (io), 44 RC6/TX/CK (io)

## PIC16C65BT-20/L
designator U?
8-Bit CMOS Microcontroller, 192 Bytes RAM, 33 I/O Pins, 20 MHz, 44-Pin PLCC, Standard VDD Range, Commercial Temperature, Tape and Reel; Note: Verify oscillator characteristics if changing from this device to another.; Note: 4.0 to 5.5V Supply Range in XT, RC and LP osc modes.; Note: 4.5 to 5.5V Supply Range in HS osc mode.; Note: 25mA source/sink per I/O.; Published: 11-Oct-2004; LatestRevisionDate: 13-Apr-2006; LatestRevisionNote: IPC-7351 Footprint Added.; DatasheetVersion: DS30605C_2000; PackageVersion: 2003; PackageReference: PLCC-44; Publisher: Altium Limited; PackageDescription: 44-Pin Leaded Chip Carrier 1.27 mm Pitch; Code_JEDEC: MO-047; Code_IPC: PLCC-44; ComponentLink1Description: Manufacturer Link; ComponentLink1URL: http://www.microchip.com; ComponentLink2Description: Datasheet; ComponentLink2URL: http://ww1.microchip.com/downloads/en/DeviceDoc/30605c.pdf; ComponentLink3Description: Packaging Specification; ComponentLink3URL: http://ww1.microchip.com/downloads/en/PackagingSpec/00049AD.pdf
footprint PLCC-44_N (Leaded Chip Carrier, 44-Leads, Body 16.6x16.6mm, Pitch 1.27mm, IPC Medium Density)
footprint PLCC-44_L (Leaded Chip Carrier, 44-Leads, Body 16.6x16.6mm, Pitch 1.27mm, IPC High Density)
footprint PLCC-44_M (Leaded Chip Carrier, 44-Leads, Body 16.6x16.6mm, Pitch 1.27mm, IPC Low Density)
3D model PIC16C65B-PLCC-44 (44-Pin Leaded Chip Carrier 1.27 mm Pitch)
pins: 1 NC, 2 ~{MCLR}/VPP (in), 3 RA0 (io), 4 RA1 (io), 5 RA2 (io), 6 RA3 (io), 7 RA4/T0CKI (io), 8 RA5/~{SS} (io), 9 RE0/~{RD} (io), 10 RE1/~{WR} (io), 11 RE2/~{CS} (io), 12 VDD (power), 13 VSS (power), 14 OSC1/CLKIN (in), 15 OSC2/CLKOUT (out), 16 RC0/T1OSO/T1CKI (io), 17 NC, 18 RC1/T1OSI/CCP2 (io), 19 RC2/CCP1 (io), 20 RC3/SCK/SCL (io), 21 RD0/PSP0 (io), 22 RD1/PSP1 (io), 23 RD2/PSP2 (io), 24 RD3/PSP3 (io), 25 RC4/SDI/SDA (io), 26 RC5/SDO (io), 27 RC6/TX/CK (io), 28 NC, 29 RC7/RX/DT (io), 30 RD4/PSP4 (io), 31 RD5/PSP5 (io), 32 RD6/PSP6 (io), 33 RD7/PSP7 (io), 34 VSS (power), 35 VDD (power), 36 RB0/INT (io), 37 RB1 (io), 38 RB2 (io), 39 RB3 (io), 40 NC, 41 RB4 (io), 42 RB5 (io), 43 RB6 (io), 44 RB7 (io)

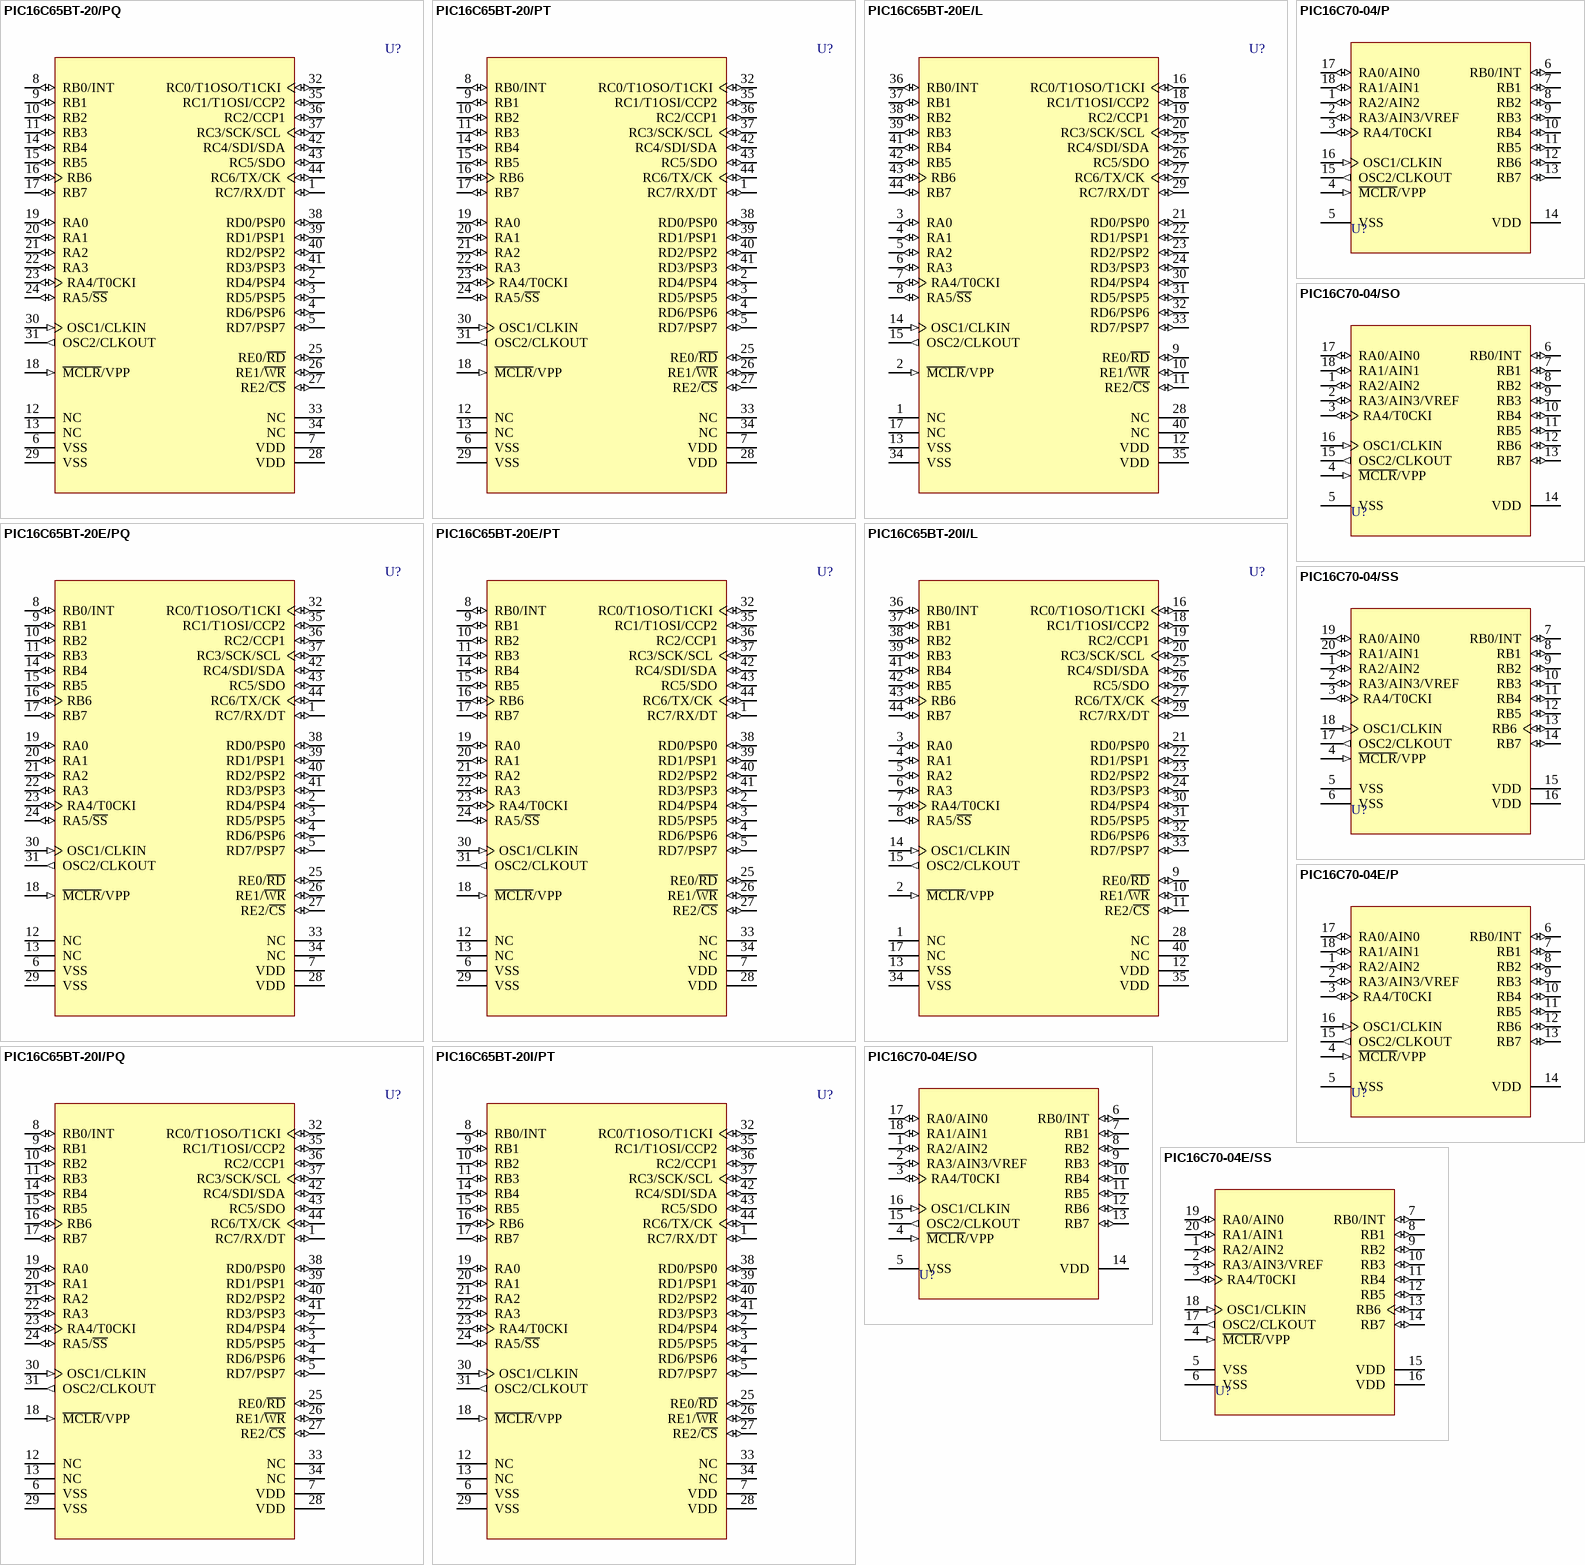
[diagram p19: symbols PIC16C65BT-20/PQ to PIC16C70-04E/SS]

## PIC16C65BT-20/PQ
designator U?
8-Bit CMOS Microcontroller, 192 Bytes RAM, 33 I/O Pins, 20 MHz, 44-Pin MQFP, Standard VDD Range, Commercial Temperature, Tape and Reel; Note: Verify oscillator characteristics if changing from this device to another.; Note: 4.0 to 5.5V Supply Range in XT, RC and LP osc modes.; Note: 4.5 to 5.5V Supply Range in HS osc mode.; Note: 25mA source/sink per I/O.; Published: 11-Oct-2004; LatestRevisionDate: 13-Apr-2006; LatestRevisionNote: IPC-7351 Footprint Added.; DatasheetVersion: DS30605C_2000; PackageVersion: 2003; PackageReference: MQFP-44; Publisher: Altium Limited; PackageDescription: 44-Pin Plastic Metric Quad Flat Pack 0.8 mm Pitch, 1.6/0.15 mm Lead Form; Code_JEDEC: MS-022; Code_IPC: QFP80P1320X1320-44; ComponentLink1Description: Manufacturer Link; ComponentLink1URL: http://www.microchip.com; ComponentLink2Description: Datasheet; ComponentLink2URL: http://ww1.microchip.com/downloads/en/DeviceDoc/30605c.pdf; ComponentLink3Description: Packaging Specification; ComponentLink3URL: http://ww1.microchip.com/downloads/en/PackagingSpec/00049AD.pdf
footprint MQFP-44_N (QFP, 44-Leads, Body 10x10mm, Pitch 0.8mm, IPC Medium Density)
footprint MQFP-44_L (QFP, 44-Leads, Body 10x10mm, Pitch 0.8mm, IPC High Density)
footprint MQFP-44_M (QFP, 44-Leads, Body 10x10mm, Pitch 0.8mm, IPC Low Density)
3D model PIC16C65B-MQFP-44 (44-Pin Plastic Metric Quad Flat Pack 0.8 mm Pitch, 1.6/0.15 mm Lead Form)
pins: 1 RC7/RX/DT (io), 2 RD4/PSP4 (io), 3 RD5/PSP5 (io), 4 RD6/PSP6 (io), 5 RD7/PSP7 (io), 6 VSS (power), 7 VDD (power), 8 RB0/INT (io), 9 RB1 (io), 10 RB2 (io), 11 RB3 (io), 12 NC, 13 NC, 14 RB4 (io), 15 RB5 (io), 16 RB6 (io), 17 RB7 (io), 18 ~{MCLR}/VPP (in), 19 RA0 (io), 20 RA1 (io), 21 RA2 (io), 22 RA3 (io), 23 RA4/T0CKI (io), 24 RA5/~{SS} (io), 25 RE0/~{RD} (io), 26 RE1/~{WR} (io), 27 RE2/~{CS} (io), 28 VDD (power), 29 VSS (power), 30 OSC1/CLKIN (in), 31 OSC2/CLKOUT (out), 32 RC0/T1OSO/T1CKI (io), 33 NC, 34 NC, 35 RC1/T1OSI/CCP2 (io), 36 RC2/CCP1 (io), 37 RC3/SCK/SCL (io), 38 RD0/PSP0 (io), 39 RD1/PSP1 (io), 40 RD2/PSP2 (io), 41 RD3/PSP3 (io), 42 RC4/SDI/SDA (io), 43 RC5/SDO (io), 44 RC6/TX/CK (io)

## PIC16C65BT-20/PT
designator U?
8-Bit CMOS Microcontroller, 192 Bytes RAM, 33 I/O Pins, 20 MHz, 44-Pin TQFP, Standard VDD Range, Commercial Temperature, Tape and Reel; Note: Verify oscillator characteristics if changing from this device to another.; Note: 4.0 to 5.5V Supply Range in XT, RC and LP osc modes.; Note: 4.5 to 5.5V Supply Range in HS osc mode.; Note: 25mA source/sink per I/O.; Published: 11-Oct-2004; LatestRevisionDate: 13-Apr-2006; LatestRevisionNote: IPC-7351 Footprint Added.; DatasheetVersion: DS30605C_2000; PackageVersion: 2003; PackageReference: TQFP-44; Publisher: Altium Limited; PackageDescription: 44-Pin Thin Quad Flat Pack 0.8 mm Pitch, 1.0/0.1 mm Lead Form; Code_JEDEC: MS-026; ComponentLink1Description: Manufacturer Link; ComponentLink1URL: http://www.microchip.com; ComponentLink2Description: Datasheet; ComponentLink2URL: http://ww1.microchip.com/downloads/en/DeviceDoc/30605c.pdf; ComponentLink3Description: Packaging Specification; ComponentLink3URL: http://ww1.microchip.com/downloads/en/PackagingSpec/00049AD.pdf
footprint TQFP-44_N (Thin QFP, 44-Leads, Body 10x10mm, Pitch 0.8mm, IPC Medium Density)
footprint TQFP-44_L (Thin QFP, 44-Leads, Body 10x10mm, Pitch 0.8mm, IPC High Density)
footprint TQFP-44_M (Thin QFP, 44-Leads, Body 10x10mm, Pitch 0.8mm, IPC Low Density)
3D model PIC16C65B-TQFP-44 (44-Pin Thin Quad Flat Pack 0.8 mm Pitch, 1.0/0.1 mm Lead Form)
pins: 1 RC7/RX/DT (io), 2 RD4/PSP4 (io), 3 RD5/PSP5 (io), 4 RD6/PSP6 (io), 5 RD7/PSP7 (io), 6 VSS (power), 7 VDD (power), 8 RB0/INT (io), 9 RB1 (io), 10 RB2 (io), 11 RB3 (io), 12 NC, 13 NC, 14 RB4 (io), 15 RB5 (io), 16 RB6 (io), 17 RB7 (io), 18 ~{MCLR}/VPP (in), 19 RA0 (io), 20 RA1 (io), 21 RA2 (io), 22 RA3 (io), 23 RA4/T0CKI (io), 24 RA5/~{SS} (io), 25 RE0/~{RD} (io), 26 RE1/~{WR} (io), 27 RE2/~{CS} (io), 28 VDD (power), 29 VSS (power), 30 OSC1/CLKIN (in), 31 OSC2/CLKOUT (out), 32 RC0/T1OSO/T1CKI (io), 33 NC, 34 NC, 35 RC1/T1OSI/CCP2 (io), 36 RC2/CCP1 (io), 37 RC3/SCK/SCL (io), 38 RD0/PSP0 (io), 39 RD1/PSP1 (io), 40 RD2/PSP2 (io), 41 RD3/PSP3 (io), 42 RC4/SDI/SDA (io), 43 RC5/SDO (io), 44 RC6/TX/CK (io)

## PIC16C65BT-20E/L
designator U?
8-Bit CMOS Microcontroller, 192 Bytes RAM, 33 I/O Pins, 20 MHz, 44-Pin PLCC, Standard VDD Range, Extended Temperature, Tape and Reel; Note: Verify oscillator characteristics if changing from this device to another.; Note: 4.0 to 5.5V Supply Range in XT, RC and LP osc modes.; Note: 4.5 to 5.5V Supply Range in HS osc mode.; Note: 25mA source/sink per I/O.; Published: 11-Oct-2004; LatestRevisionDate: 13-Apr-2006; LatestRevisionNote: IPC-7351 Footprint Added.; DatasheetVersion: DS30605C_2000; PackageVersion: 2003; PackageReference: PLCC-44; Publisher: Altium Limited; PackageDescription: 44-Pin Leaded Chip Carrier 1.27 mm Pitch; Code_JEDEC: MO-047; Code_IPC: PLCC-44; ComponentLink1Description: Manufacturer Link; ComponentLink1URL: http://www.microchip.com; ComponentLink2Description: Datasheet; ComponentLink2URL: http://ww1.microchip.com/downloads/en/DeviceDoc/30605c.pdf; ComponentLink3Description: Packaging Specification; ComponentLink3URL: http://ww1.microchip.com/downloads/en/PackagingSpec/00049AD.pdf
footprint PLCC-44_N (Leaded Chip Carrier, 44-Leads, Body 16.6x16.6mm, Pitch 1.27mm, IPC Medium Density)
footprint PLCC-44_L (Leaded Chip Carrier, 44-Leads, Body 16.6x16.6mm, Pitch 1.27mm, IPC High Density)
footprint PLCC-44_M (Leaded Chip Carrier, 44-Leads, Body 16.6x16.6mm, Pitch 1.27mm, IPC Low Density)
3D model PIC16C65B-PLCC-44 (44-Pin Leaded Chip Carrier 1.27 mm Pitch)
pins: 1 NC, 2 ~{MCLR}/VPP (in), 3 RA0 (io), 4 RA1 (io), 5 RA2 (io), 6 RA3 (io), 7 RA4/T0CKI (io), 8 RA5/~{SS} (io), 9 RE0/~{RD} (io), 10 RE1/~{WR} (io), 11 RE2/~{CS} (io), 12 VDD (power), 13 VSS (power), 14 OSC1/CLKIN (in), 15 OSC2/CLKOUT (out), 16 RC0/T1OSO/T1CKI (io), 17 NC, 18 RC1/T1OSI/CCP2 (io), 19 RC2/CCP1 (io), 20 RC3/SCK/SCL (io), 21 RD0/PSP0 (io), 22 RD1/PSP1 (io), 23 RD2/PSP2 (io), 24 RD3/PSP3 (io), 25 RC4/SDI/SDA (io), 26 RC5/SDO (io), 27 RC6/TX/CK (io), 28 NC, 29 RC7/RX/DT (io), 30 RD4/PSP4 (io), 31 RD5/PSP5 (io), 32 RD6/PSP6 (io), 33 RD7/PSP7 (io), 34 VSS (power), 35 VDD (power), 36 RB0/INT (io), 37 RB1 (io), 38 RB2 (io), 39 RB3 (io), 40 NC, 41 RB4 (io), 42 RB5 (io), 43 RB6 (io), 44 RB7 (io)

## PIC16C65BT-20E/PQ
designator U?
8-Bit CMOS Microcontroller, 192 Bytes RAM, 33 I/O Pins, 20 MHz, 44-Pin MQFP, Standard VDD Range, Extended Temperature, Tape and Reel; Note: Verify oscillator characteristics if changing from this device to another.; Note: 4.0 to 5.5V Supply Range in XT, RC and LP osc modes.; Note: 4.5 to 5.5V Supply Range in HS osc mode.; Note: 25mA source/sink per I/O.; Published: 11-Oct-2004; LatestRevisionDate: 13-Apr-2006; LatestRevisionNote: IPC-7351 Footprint Added.; DatasheetVersion: DS30605C_2000; PackageVersion: 2003; PackageReference: MQFP-44; Publisher: Altium Limited; PackageDescription: 44-Pin Plastic Metric Quad Flat Pack 0.8 mm Pitch, 1.6/0.15 mm Lead Form; Code_JEDEC: MS-022; Code_IPC: QFP80P1320X1320-44; ComponentLink1Description: Manufacturer Link; ComponentLink1URL: http://www.microchip.com; ComponentLink2Description: Datasheet; ComponentLink2URL: http://ww1.microchip.com/downloads/en/DeviceDoc/30605c.pdf; ComponentLink3Description: Packaging Specification; ComponentLink3URL: http://ww1.microchip.com/downloads/en/PackagingSpec/00049AD.pdf
footprint MQFP-44_N (QFP, 44-Leads, Body 10x10mm, Pitch 0.8mm, IPC Medium Density)
footprint MQFP-44_L (QFP, 44-Leads, Body 10x10mm, Pitch 0.8mm, IPC High Density)
footprint MQFP-44_M (QFP, 44-Leads, Body 10x10mm, Pitch 0.8mm, IPC Low Density)
3D model PIC16C65B-MQFP-44 (44-Pin Plastic Metric Quad Flat Pack 0.8 mm Pitch, 1.6/0.15 mm Lead Form)
pins: 1 RC7/RX/DT (io), 2 RD4/PSP4 (io), 3 RD5/PSP5 (io), 4 RD6/PSP6 (io), 5 RD7/PSP7 (io), 6 VSS (power), 7 VDD (power), 8 RB0/INT (io), 9 RB1 (io), 10 RB2 (io), 11 RB3 (io), 12 NC, 13 NC, 14 RB4 (io), 15 RB5 (io), 16 RB6 (io), 17 RB7 (io), 18 ~{MCLR}/VPP (in), 19 RA0 (io), 20 RA1 (io), 21 RA2 (io), 22 RA3 (io), 23 RA4/T0CKI (io), 24 RA5/~{SS} (io), 25 RE0/~{RD} (io), 26 RE1/~{WR} (io), 27 RE2/~{CS} (io), 28 VDD (power), 29 VSS (power), 30 OSC1/CLKIN (in), 31 OSC2/CLKOUT (out), 32 RC0/T1OSO/T1CKI (io), 33 NC, 34 NC, 35 RC1/T1OSI/CCP2 (io), 36 RC2/CCP1 (io), 37 RC3/SCK/SCL (io), 38 RD0/PSP0 (io), 39 RD1/PSP1 (io), 40 RD2/PSP2 (io), 41 RD3/PSP3 (io), 42 RC4/SDI/SDA (io), 43 RC5/SDO (io), 44 RC6/TX/CK (io)

## PIC16C65BT-20E/PT
designator U?
8-Bit CMOS Microcontroller, 192 Bytes RAM, 33 I/O Pins, 20 MHz, 44-Pin TQFP, Standard VDD Range, Extended Temperature, Tape and Reel; Note: Verify oscillator characteristics if changing from this device to another.; Note: 4.0 to 5.5V Supply Range in XT, RC and LP osc modes.; Note: 4.5 to 5.5V Supply Range in HS osc mode.; Note: 25mA source/sink per I/O.; Published: 11-Oct-2004; LatestRevisionDate: 13-Apr-2006; LatestRevisionNote: IPC-7351 Footprint Added.; DatasheetVersion: DS30605C_2000; PackageVersion: 2003; PackageReference: TQFP-44; Publisher: Altium Limited; PackageDescription: 44-Pin Thin Quad Flat Pack 0.8 mm Pitch, 1.0/0.1 mm Lead Form; Code_JEDEC: MS-026; ComponentLink1Description: Manufacturer Link; ComponentLink1URL: http://www.microchip.com; ComponentLink2Description: Datasheet; ComponentLink2URL: http://ww1.microchip.com/downloads/en/DeviceDoc/30605c.pdf; ComponentLink3Description: Packaging Specification; ComponentLink3URL: http://ww1.microchip.com/downloads/en/PackagingSpec/00049AD.pdf
footprint TQFP-44_N (Thin QFP, 44-Leads, Body 10x10mm, Pitch 0.8mm, IPC Medium Density)
footprint TQFP-44_L (Thin QFP, 44-Leads, Body 10x10mm, Pitch 0.8mm, IPC High Density)
footprint TQFP-44_M (Thin QFP, 44-Leads, Body 10x10mm, Pitch 0.8mm, IPC Low Density)
3D model PIC16C65B-TQFP-44 (44-Pin Thin Quad Flat Pack 0.8 mm Pitch, 1.0/0.1 mm Lead Form)
pins: 1 RC7/RX/DT (io), 2 RD4/PSP4 (io), 3 RD5/PSP5 (io), 4 RD6/PSP6 (io), 5 RD7/PSP7 (io), 6 VSS (power), 7 VDD (power), 8 RB0/INT (io), 9 RB1 (io), 10 RB2 (io), 11 RB3 (io), 12 NC, 13 NC, 14 RB4 (io), 15 RB5 (io), 16 RB6 (io), 17 RB7 (io), 18 ~{MCLR}/VPP (in), 19 RA0 (io), 20 RA1 (io), 21 RA2 (io), 22 RA3 (io), 23 RA4/T0CKI (io), 24 RA5/~{SS} (io), 25 RE0/~{RD} (io), 26 RE1/~{WR} (io), 27 RE2/~{CS} (io), 28 VDD (power), 29 VSS (power), 30 OSC1/CLKIN (in), 31 OSC2/CLKOUT (out), 32 RC0/T1OSO/T1CKI (io), 33 NC, 34 NC, 35 RC1/T1OSI/CCP2 (io), 36 RC2/CCP1 (io), 37 RC3/SCK/SCL (io), 38 RD0/PSP0 (io), 39 RD1/PSP1 (io), 40 RD2/PSP2 (io), 41 RD3/PSP3 (io), 42 RC4/SDI/SDA (io), 43 RC5/SDO (io), 44 RC6/TX/CK (io)

## PIC16C65BT-20I/L
designator U?
8-Bit CMOS Microcontroller, 192 Bytes RAM, 33 I/O Pins, 20 MHz, 44-Pin PLCC, Standard VDD Range, Industrial Temperature, Tape and Reel; Note: Verify oscillator characteristics if changing from this device to another.; Note: 4.0 to 5.5V Supply Range in XT, RC and LP osc modes.; Note: 4.5 to 5.5V Supply Range in HS osc mode.; Note: 25mA source/sink per I/O.; Published: 11-Oct-2004; LatestRevisionDate: 13-Apr-2006; LatestRevisionNote: IPC-7351 Footprint Added.; DatasheetVersion: DS30605C_2000; PackageVersion: 2003; PackageReference: PLCC-44; Publisher: Altium Limited; PackageDescription: 44-Pin Leaded Chip Carrier 1.27 mm Pitch; Code_JEDEC: MO-047; Code_IPC: PLCC-44; ComponentLink1Description: Manufacturer Link; ComponentLink1URL: http://www.microchip.com; ComponentLink2Description: Datasheet; ComponentLink2URL: http://ww1.microchip.com/downloads/en/DeviceDoc/30605c.pdf; ComponentLink3Description: Packaging Specification; ComponentLink3URL: http://ww1.microchip.com/downloads/en/PackagingSpec/00049AD.pdf
footprint PLCC-44_N (Leaded Chip Carrier, 44-Leads, Body 16.6x16.6mm, Pitch 1.27mm, IPC Medium Density)
footprint PLCC-44_L (Leaded Chip Carrier, 44-Leads, Body 16.6x16.6mm, Pitch 1.27mm, IPC High Density)
footprint PLCC-44_M (Leaded Chip Carrier, 44-Leads, Body 16.6x16.6mm, Pitch 1.27mm, IPC Low Density)
3D model PIC16C65B-PLCC-44 (44-Pin Leaded Chip Carrier 1.27 mm Pitch)
pins: 1 NC, 2 ~{MCLR}/VPP (in), 3 RA0 (io), 4 RA1 (io), 5 RA2 (io), 6 RA3 (io), 7 RA4/T0CKI (io), 8 RA5/~{SS} (io), 9 RE0/~{RD} (io), 10 RE1/~{WR} (io), 11 RE2/~{CS} (io), 12 VDD (power), 13 VSS (power), 14 OSC1/CLKIN (in), 15 OSC2/CLKOUT (out), 16 RC0/T1OSO/T1CKI (io), 17 NC, 18 RC1/T1OSI/CCP2 (io), 19 RC2/CCP1 (io), 20 RC3/SCK/SCL (io), 21 RD0/PSP0 (io), 22 RD1/PSP1 (io), 23 RD2/PSP2 (io), 24 RD3/PSP3 (io), 25 RC4/SDI/SDA (io), 26 RC5/SDO (io), 27 RC6/TX/CK (io), 28 NC, 29 RC7/RX/DT (io), 30 RD4/PSP4 (io), 31 RD5/PSP5 (io), 32 RD6/PSP6 (io), 33 RD7/PSP7 (io), 34 VSS (power), 35 VDD (power), 36 RB0/INT (io), 37 RB1 (io), 38 RB2 (io), 39 RB3 (io), 40 NC, 41 RB4 (io), 42 RB5 (io), 43 RB6 (io), 44 RB7 (io)

## PIC16C65BT-20I/PQ
designator U?
8-Bit CMOS Microcontroller, 192 Bytes RAM, 33 I/O Pins, 20 MHz, 44-Pin MQFP, Standard VDD Range, Industrial Temperature, Tape and Reel; Note: Verify oscillator characteristics if changing from this device to another.; Note: 4.0 to 5.5V Supply Range in XT, RC and LP osc modes.; Note: 4.5 to 5.5V Supply Range in HS osc mode.; Note: 25mA source/sink per I/O.; Published: 11-Oct-2004; LatestRevisionDate: 13-Apr-2006; LatestRevisionNote: IPC-7351 Footprint Added.; DatasheetVersion: DS30605C_2000; PackageVersion: 2003; PackageReference: MQFP-44; Publisher: Altium Limited; PackageDescription: 44-Pin Plastic Metric Quad Flat Pack 0.8 mm Pitch, 1.6/0.15 mm Lead Form; Code_JEDEC: MS-022; Code_IPC: QFP80P1320X1320-44; ComponentLink1Description: Manufacturer Link; ComponentLink1URL: http://www.microchip.com; ComponentLink2Description: Datasheet; ComponentLink2URL: http://ww1.microchip.com/downloads/en/DeviceDoc/30605c.pdf; ComponentLink3Description: Packaging Specification; ComponentLink3URL: http://ww1.microchip.com/downloads/en/PackagingSpec/00049AD.pdf
footprint MQFP-44_N (QFP, 44-Leads, Body 10x10mm, Pitch 0.8mm, IPC Medium Density)
footprint MQFP-44_L (QFP, 44-Leads, Body 10x10mm, Pitch 0.8mm, IPC High Density)
footprint MQFP-44_M (QFP, 44-Leads, Body 10x10mm, Pitch 0.8mm, IPC Low Density)
3D model PIC16C65B-MQFP-44 (44-Pin Plastic Metric Quad Flat Pack 0.8 mm Pitch, 1.6/0.15 mm Lead Form)
pins: 1 RC7/RX/DT (io), 2 RD4/PSP4 (io), 3 RD5/PSP5 (io), 4 RD6/PSP6 (io), 5 RD7/PSP7 (io), 6 VSS (power), 7 VDD (power), 8 RB0/INT (io), 9 RB1 (io), 10 RB2 (io), 11 RB3 (io), 12 NC, 13 NC, 14 RB4 (io), 15 RB5 (io), 16 RB6 (io), 17 RB7 (io), 18 ~{MCLR}/VPP (in), 19 RA0 (io), 20 RA1 (io), 21 RA2 (io), 22 RA3 (io), 23 RA4/T0CKI (io), 24 RA5/~{SS} (io), 25 RE0/~{RD} (io), 26 RE1/~{WR} (io), 27 RE2/~{CS} (io), 28 VDD (power), 29 VSS (power), 30 OSC1/CLKIN (in), 31 OSC2/CLKOUT (out), 32 RC0/T1OSO/T1CKI (io), 33 NC, 34 NC, 35 RC1/T1OSI/CCP2 (io), 36 RC2/CCP1 (io), 37 RC3/SCK/SCL (io), 38 RD0/PSP0 (io), 39 RD1/PSP1 (io), 40 RD2/PSP2 (io), 41 RD3/PSP3 (io), 42 RC4/SDI/SDA (io), 43 RC5/SDO (io), 44 RC6/TX/CK (io)

## PIC16C65BT-20I/PT
designator U?
8-Bit CMOS Microcontroller, 192 Bytes RAM, 33 I/O Pins, 20 MHz, 44-Pin TQFP, Standard VDD Range, Industrial Temperature, Tape and Reel; Note: Verify oscillator characteristics if changing from this device to another.; Note: 4.0 to 5.5V Supply Range in XT, RC and LP osc modes.; Note: 4.5 to 5.5V Supply Range in HS osc mode.; Note: 25mA source/sink per I/O.; Published: 11-Oct-2004; LatestRevisionDate: 13-Apr-2006; LatestRevisionNote: IPC-7351 Footprint Added.; DatasheetVersion: DS30605C_2000; PackageVersion: 2003; PackageReference: TQFP-44; Publisher: Altium Limited; PackageDescription: 44-Pin Thin Quad Flat Pack 0.8 mm Pitch, 1.0/0.1 mm Lead Form; Code_JEDEC: MS-026; ComponentLink1Description: Manufacturer Link; ComponentLink1URL: http://www.microchip.com; ComponentLink2Description: Datasheet; ComponentLink2URL: http://ww1.microchip.com/downloads/en/DeviceDoc/30605c.pdf; ComponentLink3Description: Packaging Specification; ComponentLink3URL: http://ww1.microchip.com/downloads/en/PackagingSpec/00049AD.pdf
footprint TQFP-44_N (Thin QFP, 44-Leads, Body 10x10mm, Pitch 0.8mm, IPC Medium Density)
footprint TQFP-44_L (Thin QFP, 44-Leads, Body 10x10mm, Pitch 0.8mm, IPC High Density)
footprint TQFP-44_M (Thin QFP, 44-Leads, Body 10x10mm, Pitch 0.8mm, IPC Low Density)
3D model PIC16C65B-TQFP-44 (44-Pin Thin Quad Flat Pack 0.8 mm Pitch, 1.0/0.1 mm Lead Form)
pins: 1 RC7/RX/DT (io), 2 RD4/PSP4 (io), 3 RD5/PSP5 (io), 4 RD6/PSP6 (io), 5 RD7/PSP7 (io), 6 VSS (power), 7 VDD (power), 8 RB0/INT (io), 9 RB1 (io), 10 RB2 (io), 11 RB3 (io), 12 NC, 13 NC, 14 RB4 (io), 15 RB5 (io), 16 RB6 (io), 17 RB7 (io), 18 ~{MCLR}/VPP (in), 19 RA0 (io), 20 RA1 (io), 21 RA2 (io), 22 RA3 (io), 23 RA4/T0CKI (io), 24 RA5/~{SS} (io), 25 RE0/~{RD} (io), 26 RE1/~{WR} (io), 27 RE2/~{CS} (io), 28 VDD (power), 29 VSS (power), 30 OSC1/CLKIN (in), 31 OSC2/CLKOUT (out), 32 RC0/T1OSO/T1CKI (io), 33 NC, 34 NC, 35 RC1/T1OSI/CCP2 (io), 36 RC2/CCP1 (io), 37 RC3/SCK/SCL (io), 38 RD0/PSP0 (io), 39 RD1/PSP1 (io), 40 RD2/PSP2 (io), 41 RD3/PSP3 (io), 42 RC4/SDI/SDA (io), 43 RC5/SDO (io), 44 RC6/TX/CK (io)

## PIC16C70-04/P
designator U?
EPROM-Based 8-Bit CMOS Microcontroller with A/D Converter; Published: 8-Jun-2000; LatestRevisionDate: 04-Mar-2005; LatestRevisionNote: Stylized 3D Model Added.; DatasheetVersion: 1995; PackageVersion: 2003; PackageReference: PDIP300-18; Publisher: Altium Limited; PackageDescription: DIP, Plastic; 18 Leads; Row Spacing 7.62 mm; Pitch 2.54 mm; Code_JEDEC: MS-001; ComponentLink1Description: Manufacturer Link; ComponentLink1URL: http://www.microchip.com; ComponentLink2Description: Packaging Specification; ComponentLink2URL: http://ww1.microchip.com/downloads/en/PackagingSpec/00049AD.pdf
footprint PDIP300-18 (DIP, Plastic; 18 Leads; Row Spacing 7.62 mm; Pitch 2.54 mm)
3D model PDIP300-18 (DIP, Plastic; 18 Leads; Row Spacing 7.62 mm; Pitch 2.54 mm)
pins: 1 RA2/AIN2 (io), 2 RA3/AIN3/VREF (io), 3 RA4/T0CKI (io), 4 ~{MCLR}/VPP (in), 5 VSS (power), 6 RB0/INT (io), 7 RB1 (io), 8 RB2 (io), 9 RB3 (io), 10 RB4 (io), 11 RB5 (io), 12 RB6 (io), 13 RB7 (io), 14 VDD (power), 15 OSC2/CLKOUT (out), 16 OSC1/CLKIN (in), 17 RA0/AIN0 (io), 18 RA1/AIN1 (io)